# Altium schematic symbol library Schlib1.SchLib: 35 symbols
Pins are listed as number, name and electrical type; pins without a type are passive.

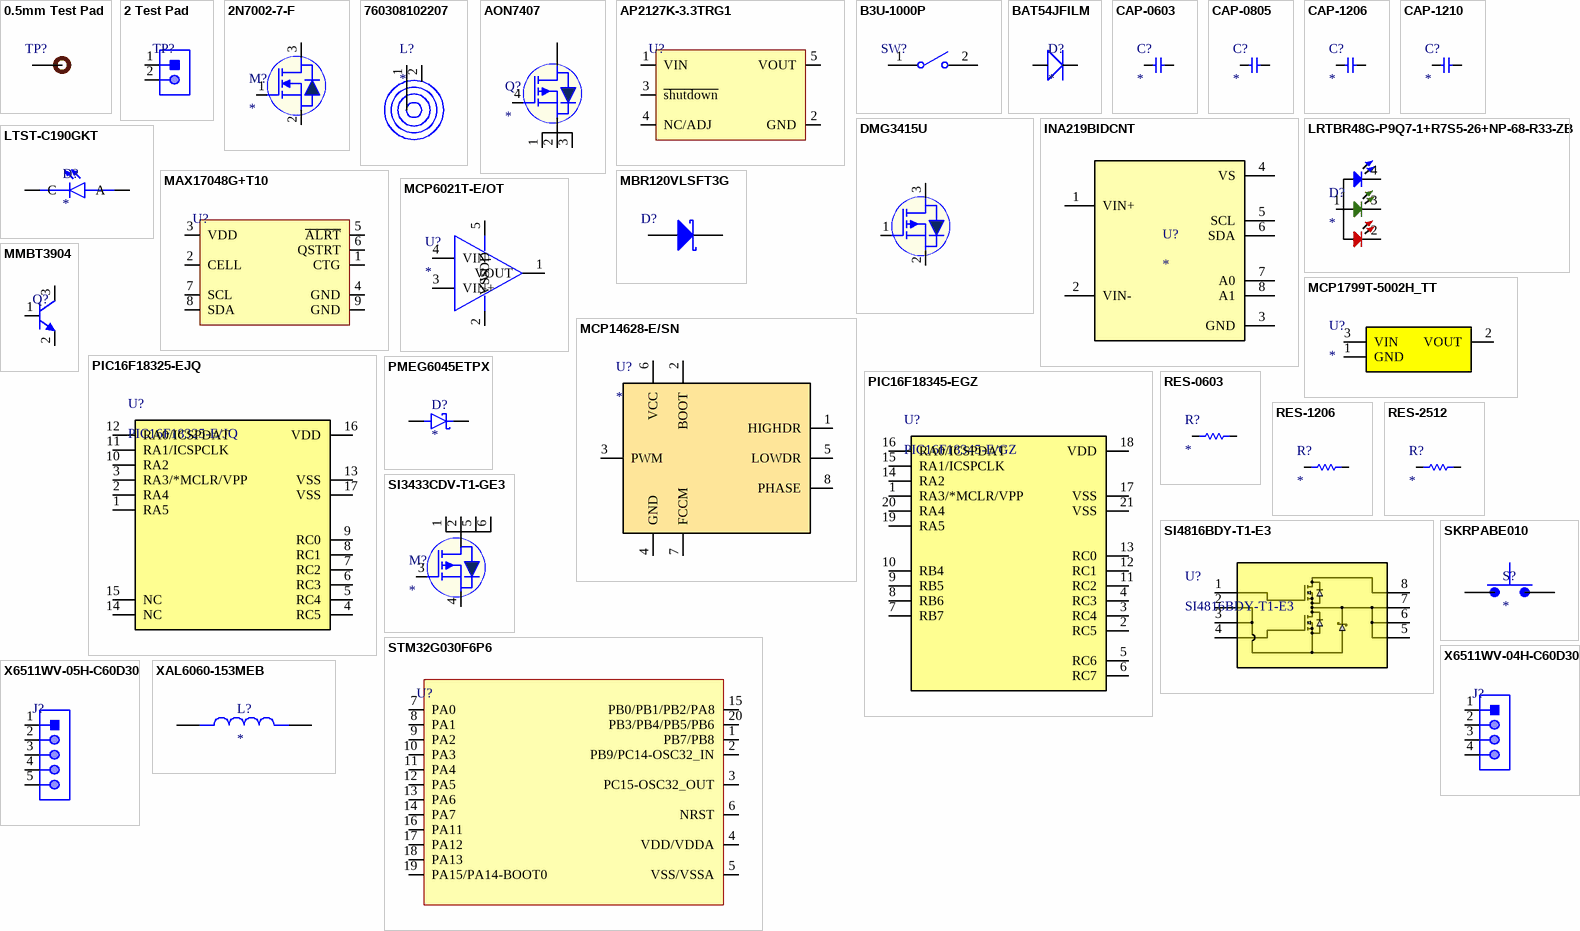
[diagram p0: symbols 0.5mm Test Pad to XAL6060-153MEB]

## 0.5mm Test Pad
designator TP?  (no BOM)
Test pad
footprint 0.5mm Test Pad
pins: 1

## 2 Test Pad
designator TP?  (no BOM)
Wire Connecting Pad; Manufacturer Part Number: 2 Test Pad; Item Type: Test Point
footprint 2 Test Pad
pins: 1, 2

## 2N7002-7-F
designator M?
N-Channel 60 V 115mA (Ta) 370mW (Ta) Surface Mount SOT-23-3; MP: 2N7002-7-F; MF: Diodes Inc.; Purchase-URL: https://pricing.snapeda.com/search/part/2N7002-7-F/?ref=eda; Package: SOT-23-3 Diodes Inc.; Price: None; Availability: In Stock; Value: *; Check_prices: https://www.snapeda.com/parts/2N7002-7-F/Diodes+Inc./view-part/?ref=eda; SnapEDA_Link: https://www.snapeda.com/parts/2N7002-7-F/Diodes+Inc./view-part/?ref=snap
footprint SOT103P240X110-3N
pins: 1 G, 2 S, 3 D

## 760308102207
designator L?
RX 1 COIL 1 LYR BIFILAR 8UH 5A; MF: WÃ¼rth Elektronik; MP: 760308102207; SnapEDA_Link: https://www.snapeda.com/parts/760308102207/W%25C3%25BCrth+Elektronik+Midcom/view-part/?ref=snap; Package: WÃ¼rth Elektronik; Value: *; Check_prices: https://www.snapeda.com/parts/760308102207/W%25C3%25BCrth+Elektronik+Midcom/view-part/?ref=eda
footprint WE-WPCC_RX_760308102207
pins: 1 11, 2 12

## AON7407
designator Q?
P-Channel 20 V 14.5A (Ta), 40A (Tc) 3.1W (Ta), 29W (Tc) Surface Mount 8-DFN-EP (3x3); MF: Alpha & Omega Semiconductor Inc.; MP: AON7407; SnapEDA_Link: https://www.snapeda.com/parts/AON7407/Alpha+%2526+Omega+Semiconductor+Inc./view-part/?ref=snap; Package: PowerVDFN-8 Alpha &amp; Omega Semiconductor Inc.; Value: *; Check_prices: https://www.snapeda.com/parts/AON7407/Alpha+%2526+Omega+Semiconductor+Inc./view-part/?ref=eda
footprint TRANS_AON7407
pins: 1 S, 2 S, 3 S, 4 G, 5_6_7_8 D

## AP2127K-3.3TRG1
designator U?
IC REG LINEAR 3.3V 300MA SOT23-5; Manufacturer: Diodes; Manufacturer Part Number: AP2127K-3.3TRG1; Supplier: Arrow Electronics; LCSC Part Number: C156285; RoHS: Yes; Item Type: IC; Stock: 45000; Pricing: 3000=0.0623, 6000=0.0623 (USD); ComponentLink1URL: https://datasheet.ciiva.com/30016/ap2127-30016760.pdf?src-supplier=Avnet; ComponentLink1Description: https://datasheet.ciiva.com/30016/ap2127-30016760.pdf?src-supplier=Avnet; ComponentLink2URL: https://datasheet.ciiva.com/29569/ap2127-29569893.pdf?src-supplier=Digikey; ComponentLink2Description: https://datasheet.ciiva.com/29569/ap2127-29569893.pdf?src-supplier=Digikey
footprint SOT-23-5
pins: 1 VIN, 2 GND, 3 ~{shutdown}, 4 NC/ADJ, 5 VOUT

## B3U-1000P
designator SW?
SWITCH TACTILE SPST-NO 0.05A 12V; Manufacturer: Omron; Manufacturer Part Number: B3U-1000P; Mechanical Life: 200000Cycles; Operating Force: 1.5N; Throw Configuration: SPST; Current Rating: 50mA; Contact Resistance: 100mR; Illumination Type: Non-Illuminated,Illuminated; Switch Travel: 0.15mm; Switch Function: Off-Mom; Actuator Type: Standard; Actuator Length: 0.4mm; Ratings: Dust Proof,IP40; ComponentLink1URL: http://www.farnell.com/datasheets/60838.pdf?src-supplier=Farnell; ComponentLink1Description: http://www.farnell.com/datasheets/60838.pdf?src-supplier=Farnell; ComponentLink2URL: http://www.farnell.com/datasheets/60838.pdf?src-supplier=Element14; ComponentLink2Description: http://www.farnell.com/datasheets/60838.pdf?src-supplier=Element14; ComponentLink3URL: https://omronfs.omron.com/en_US/ecb/products/pdf/en-b3u.pdf?src-supplier=Digi-Key; ComponentLink3Description: https://omronfs.omron.com/en_US/ecb/products/pdf/en-b3u.pdf?src-supplier=Digi-Key; ComponentLink4URL: http://www.omron.com/ecb/products/pdf/en-b3u.pdf?src-supplier=Digi-Key; ComponentLink4Description: http://www.omron.com/ecb/products/pdf/en-b3u.pdf?src-supplier=Digi-Key; ComponentLink5URL: https://www.distrelec.biz/Web/Downloads/he/et/B3U_eng_datasheet.pdf?mime=application%2Fpdf&src-supplier=Distrelec; ComponentLink5Description: https://www.distrelec.biz/Web/Downloads/he/et/B3U_eng_datasheet.pdf?mime=application%2Fpdf&src-supplier=Distrelec; ComponentLink6URL: http://www.onlinecomponents.com/productFiles/mf-OM/en-b3u.pdf?src-supplier=Onlinecomponents.com; ComponentLink6Description: http://www.onlinecomponents.com/productFiles/mf-OM/en-b3u.pdf?src-supplier=Onlinecomponents.com; Supplier 1: Digi-Key; Stock 1: 116454; Pricing 1: 1=1, 10=0.961, 25=0.9064, 50=0.7976, 100=0.7251, 250=0.68888, 500=0.67074, 1000=0.52571 (USD); Mount: Surface Mount; Weight: 0.000776oz; Contact Material: Silver; Min Operating Temperature: -25°C; Max Operating Temperature: 70°C; Packaging: Tape and Reel; Voltage Rating (DC): 12V; Package Quantity: 1; Max Current Rating: 50mA; Termination: SMD/SMT; Orientation: Straight; Max Voltage Rating (DC): 12V; Electrical Life: 200000Cycles; Insulation Resistance: 100MR; Contact Current Rating: 50mA; Length: 4mm; Height: 1.2mm; Depth: 2.5mm; Width: 3mm; REACH SVHC: Unknown; Lead Free: Lead Free; ComponentLink7URL: https://www.verical.com/server-webapp/html/getDatasheet?partID=552554&src-supplier=Verical; ComponentLink7Description: https://www.verical.com/server-webapp/html/getDatasheet?partID=552554&src-supplier=Verical; ComponentLink8URL: http://www.farnell.com/datasheets/1685550.pdf?src-supplier=Element14; ComponentLink8Description: http://www.farnell.com/datasheets/1685550.pdf?src-supplier=Element14; ComponentLink9URL: http://www.farnell.com/datasheets/2610940.pdf?src-supplier=Farnell; ComponentLink9Description: http://www.farnell.com/datasheets/2610940.pdf?src-supplier=Farnell; ComponentLink10URL: https://www.alliedelec.com/m/d/4c8a9ef82804fc3c241a13c1e298fd73.pdf?src-supplier=Allied+Electronics; ComponentLink10Description: https://www.alliedelec.com/m/d/4c8a9ef82804fc3c241a13c1e298fd73.pdf?src-supplier=Allied+Electronics; Supplier Part Number 1: SW1020DKR-ND; LCSC Part Number: C231329; Item Type: Switch
footprint B3U-1000P (SWITCH TACTILE SPST-NO 0.05A 12V)
pins: 1, 2

## BAT54JFILM
designator D?
MF: STMicroelectronics; MP: BAT54JFILM; Package: SOD-323 STMicroelectronics; Price: None; Check_prices: https://www.snapeda.com/parts/BAT54JFILM/STMicroelectronics/view-part/?ref=eda; Value: *; SnapEDA_Link: https://www.snapeda.com/parts/BAT54JFILM/STMicroelectronics/view-part/?ref=snap; Availability: In Stock; Purchase-URL: https://pricing.snapeda.com/search/part/BAT54JFILM/?ref=eda
footprint SOD-323
pins: NEG, POS

## CAP-0603
designator C?
footprint Cap-0603
pins: 1, 2

## CAP-0805
designator C?
footprint Cap-0805 (SMD 0805)
pins: 1, 2

## CAP-1206
designator C?
footprint Cap-1206 (SMD 1206)
pins: 1, 2

## CAP-1210
designator C?
footprint Cap-1210 (SMD 1210)
pins: 1, 2

## DMG3415U
designator Q?
P-Channel MOSFETs ROHS; Manufacturer: TECH PUBLIC; Manufacturer Part Number: DMG3415U; Item Type: MOSFET; Package: SOT-23; LCSC Part Number: C7202986; ComponentLink1Description: LCSC; ComponentLink1URL: https://www.lcsc.com/product-detail/MOSFETs_TECH-PUBLIC-DMG3415U_C7202986.html
footprint SOT-23 (TRANS NPN 40V 0.6A SOT23)
pins: 1 G, 2 S, 3 D

## INA219BIDCNT
designator U?
26-V 12-bit I2C output digital power monitor; MF: Texas Instruments; MP: INA219BIDCNT; SnapEDA_Link: https://www.snapeda.com/parts/INA219BIDCNT/Texas+Instruments/view-part/?ref=snap; Package: SOT-23-8 Texas Instruments; Value: *; Check_prices: https://www.snapeda.com/parts/INA219BIDCNT/Texas+Instruments/view-part/?ref=eda
footprint SOT65P280X145-8N
pins: 1 VIN+, 2 VIN-, 3 GND, 4 VS, 5 SCL, 6 SDA, 7 A0, 8 A1

## LRTBR48G-P9Q7-1+R7S5-26+NP-68-R33-ZB
designator D?
footprint LRTBR48G-P9Q7-1+R7S5-26+NP-68-R33-ZB
pins: 1 +, 2 -RED, 3 -GREEN, 4 -BLUE

## LTST-C190GKT
designator D?
MF: {'manufacturer': u'Lite-On Inc.'}; MP: LTST-C190GKT; Package: None; Price: None; Value: *; Availability: Unavailable
footprint LEDM1608X80
pins: A, C

## MAX17048G+T10
designator U?
IC BATT MON LI-ION 1CELL 8TDFN; Manufacturer: Maxim; Manufacturer Part Number: MAX17048G+T10; Output Voltage: 400mV; Operating Supply Current: 23uA; Operating Supply Voltage: 4.5V; Supplier 1: Mouser; RoHS: Yes; Category: Battery Management; Stock 1: 41293; Pricing 1: 1=3.34000, 10=3.00000, 50=2.84000, 100=2.46000, 1000=1.89000, 10000=1.83000 (USD); Mount: Surface Mount; Number of Pins: 8; Contact Plating: Tin,Matte; Min Operating Temperature: -20°C; Max Operating Temperature: 85°C; Packaging: Tape and Reel; Package Quantity: 10000; Series: ModelGauge™; Radiation Hardening: No; RoHS Compliant: Yes; ComponentLink1URL: https://datasheet.ciiva.com/14083/max17048-max17049-14083973.pdf?src-supplier=Digi-Key; ComponentLink1Description: https://datasheet.ciiva.com/14083/max17048-max17049-14083973.pdf?src-supplier=Digi-Key; Supplier Part Number 1: 700-MAX17048G+T10; LCSC Part Number: C2682616; Item Type: IC
footprint 8-TDFN-EP (2x2)
pins: 1 CTG, 2 CELL, 3 VDD, 4 GND, 5 ~{ALRT}, 6 QSTRT, 7 SCL, 8 SDA, 9 GND

## MBR120VLSFT3G
designator D?
DIODE SCHOTTKY 20V 1A SOD123FL; Manufacturer: ON Semiconductor; Manufacturer Part Number: MBR120VLSFT3G; Max Surge Current: 45A; Forward Voltage: 340mV; Peak Reverse Current: 600uA; Element Configuration: Single; Polarity: Standard; Supplier 1: Digi-Key; Stock 1: 130499; Pricing 1: 1=0.42, 10=0.338, 100=0.2298, 500=0.17234, 1000=0.12926 (USD); Number of Pins: 2; Min Operating Temperature: -65°C; Max Operating Temperature: 125°C; Package Quantity: 10000; Forward Current: 1A; Packaging: Tape and Reel; Max Reverse Leakage Current: 600uA; Average Rectified Current: 1A; Peak Non-Repetitive Surge Current: 45A; Max Repetitive Reverse Voltage (Vrrm): 20V; Max Forward Surge Current (Ifsm): 45A; Voltage Rating (DC): 20V; Current Rating: 1A; Output Current: 1A; Max Reverse Voltage (DC): 20V; Radiation Hardening: No; REACH SVHC: No SVHC; Lead Free: Lead Free; Halogen Free: Halogen Free; ComponentLink1URL: http://www.mouser.com/ds/2/308/MBR120VLSFT1-D-107081.pdf?src-supplier=Mouser; ComponentLink1Description: http://www.mouser.com/ds/2/308/MBR120VLSFT1-D-107081.pdf?src-supplier=Mouser; ComponentLink2URL: http://www.onsemi.com/pub/Collateral/MBR120VLSFT1-D.PDF?src-supplier=Digi-Key; ComponentLink2Description: http://www.onsemi.com/pub/Collateral/MBR120VLSFT1-D.PDF?src-supplier=Digi-Key; ComponentLink3URL: http://www.onsemi.cn/pub_link/Collateral/MBR120VLSFT1-D.PDF?src-supplier=Avnet; ComponentLink3Description: http://www.onsemi.cn/pub_link/Collateral/MBR120VLSFT1-D.PDF?src-supplier=Avnet; Supplier Part Number 1: MBR120VLSFT3GOSCT-ND; LCSC Part Number: C295749
footprint SOD-123
pins: 1 A, 2 K

## MCP1799T-5002H_TT
designator U?
Linear Voltage Regulator IC Positive Fixed 1 Output  80mA SOT-23-3; MF: Microchip Technology; MP: MCP1799T-5002H/TT; SnapEDA_Link: https://www.snapeda.com/parts/MCP1799T-5002H/TT/Microchip/view-part/?ref=snap; Package: TO-236-3 Microchip Technology; Value: *; Check_prices: https://www.snapeda.com/parts/MCP1799T-5002H/TT/Microchip/view-part/?ref=eda
footprint SOT95P237X112-3N
pins: 1 GND, 2 VOUT, 3 VIN

## MCP6021T-E/OT
designator U?
IC OPAMP GP 1 CIRCUIT SOT23-5; MP: MCP6021T-E/OT; MF: Microchip Technology; DigiKey-Purchase-URL: https://snapeda.com/shop?store=DigiKey&id=4816934; Availability: Unavailable; Arrow_Electronics-Purchase-URL: https://snapeda.com/shop?store=Arrow+Electronics&id=4816934; Package: None; Mouser-Purchase-URL: https://snapeda.com/shop?store=Mouser&id=4816934; SnapEDA_Link: https://www.snapeda.com/parts/MCP6021T-E/OT/Atmel/view-part/4816934/?ref=snap; Value: *; Price: None
footprint SOT95P270X145-5N
pins: 1 VOUT, 2 VSS, 3 VIN+, 4 VIN-, 5 VDD

## MCP14628-E/SN
designator U?
Microchip MCP14628-E/SN, Dual MOSFET Power Driver 2A, 4.5 to 5.5 V, 8-Pin SOIC | Microchip Technology Inc. MCP14628-E/SN; SnapEDA_Link: https://www.snapeda.com/parts/MCP14628-E/SN/Microchip+Technology/view-part/?ref=snap; Package: SOIC-8 Microchip; Value: *; MF: Microchip; MP: MCP14628-E/SN; Check_prices: https://www.snapeda.com/parts/MCP14628-E/SN/Microchip+Technology/view-part/?ref=eda
footprint SOIC127P600X175-8N
pins: 1 HIGHDR, 2 BOOT, 3 PWM, 4 GND, 5 LOWDR, 6 VCC, 7 FCCM, 8 PHASE

## MMBT3904
designator Q?
40V 200mW 100 200mA NPN SOT-23 Bipolar (BJT) ROHS; Manufacturer: ElecSuper; Manufacturer Part Number: MMBT3904; Item Type: (BJT); Package: SOT-23; LCSC Part Number: C5249683; ComponentLink1Description: LCSC; ComponentLink1URL: https://www.lcsc.com/product-detail/Bipolar-BJT_ElecSuper-MMBT3904_C5249683.html
footprint SOT-23 (TRANS NPN 40V 0.6A SOT23)
pins: 1 B, 2 E, 3 C

## PIC16F18325-EJQ
designator U?, comment PIC16F18325-E/JQ
No Description Available; Manufacturer_Name: Microchip; Copyright: Copyright (C) 2025 Ultra Librarian. All rights reserved.; Manufacturer_Part_Number: PIC16F18325-E/JQ; RefDes: RefDes; Type: Type
footprint UQFN16_JQ_MCH
pins: 1 RA5, 2 RA4, 3 RA3/*MCLR/VPP, 4 RC5, 5 RC4, 6 RC3, 7 RC2, 8 RC1, 9 RC0, 10 RA2, 11 RA1/ICSPCLK, 12 RA0/ICSPDAT, 13 VSS, 14 NC, 15 NC, 16 VDD, 17 VSS

## PIC16F18345-EGZ
designator U?, comment PIC16F18345-E/GZ
No Description Available; Manufacturer_Name: Microchip; Type: Embedded; Copyright: Copyright (C) 2025 Ultra Librarian. All rights reserved.; Manufacturer_Part_Number: PIC16F18345-E/GZ; RefDes: RefDes
footprint UQFN20_GZ_MCH
pins: 1 RA3/*MCLR/VPP, 2 RC5, 3 RC4, 4 RC3, 5 RC6, 6 RC7, 7 RB7, 8 RB6, 9 RB5, 10 RB4, 11 RC2, 12 RC1, 13 RC0, 14 RA2, 15 RA1/ICSPCLK, 16 RA0/ICSPDAT, 17 VSS, 18 VDD, 19 RA5, 20 RA4, 21 VSS

## PMEG6045ETPX
designator D?
Rectifier Diode Schottky 4.5A 20ns Automotive 2-Pin SOD-128 T/R; MF: Nexperia; MP: PMEG6045ETPX; SnapEDA_Link: https://www.snapeda.com/parts/PMEG6045ETPX/Nexperia/view-part/?ref=snap; Package: CFP5-2 Nexperia USA Inc.; Value: *; Check_prices: https://www.snapeda.com/parts/PMEG6045ETPX/Nexperia/view-part/?ref=eda
footprint DIO_PMEG6045ETPX
pins: A, K

## RES-0603
designator R?
footprint Res-0603
pins: 1, 2

## RES-1206
designator R?
footprint Res-1206
pins: 1, 2

## RES-2512
designator R?
footprint RES-2512
pins: 1, 2

## SI3433CDV-T1-GE3
designator M?
footprint 6-TSOP_
pins: 1 D, 2 D, 3 G, 4 S, 5 D, 6 D

## SI4816BDY-T1-E3
designator U?
DUAL N-CH 30-V (D-S) MOSFET W/SCHOTTKY; Manufacturer_Name: Vishay; Copyright: Copyright (C) 2025 Ultra Librarian. All rights reserved.; Manufacturer_Part_Number: SI4816BDY-T1-E3; Datasheet: https://www.vishay.com/doc?73026; RefDes: RefDes; Type: Type
footprint SOIC8_NARROW_VIS
pins: 1, 2, 3, 4, 5, 6, 7, 8

## SKRPABE010
designator S?
Switch Tactile N.O. SPST Button J-Bend 0.05A 16VDC 1.57N SMD Automotive T/R; MF: ALPS; MP: SKRPABE010; SnapEDA_Link: https://www.snapeda.com/parts/SKRPABE010/ALPS/view-part/?ref=snap; Package: None; Value: *; Check_prices: https://www.snapeda.com/parts/SKRPABE010/ALPS/view-part/?ref=eda
footprint SW_SKRPABE010
pins: 1, 2 1, 3 2, 4 2

## STM32G030F6P6
designator U?
IC MCU 32BIT 32KB FLASH 20TSSOP; Manufacturer: STMicroelectronics; Manufacturer Part Number: STM32G030F6P6; Supplier: Future Electronics; LCSC Part Number: C724040; RoHS: Yes; Item Type: IC; Stock: 15; Pricing: 20=0.745, 296=0.71, 1110=0.68, 1850=0.67, 3700=0.635 (USD); ComponentLink1URL: http://www.farnell.com/datasheets/2882477.pdf?src-supplier=Farnell; ComponentLink1Description: http://www.farnell.com/datasheets/2882477.pdf?src-supplier=Farnell; ComponentLink2URL: https://www.st.com/resource/en/datasheet/stm32g030c6.pdf?src-supplier=Digikey; ComponentLink2Description: https://www.st.com/resource/en/datasheet/stm32g030c6.pdf?src-supplier=Digikey; ComponentLink3URL: https://datasheet.octopart.com/STM32G030F6P6-STMicroelectronics-datasheet-137692524.pdf?src-supplier=TME; ComponentLink3Description: https://datasheet.octopart.com/STM32G030F6P6-STMicroelectronics-datasheet-137692524.pdf?src-supplier=TME
footprint TSSOP-20
pins: 1 PB7/PB8, 2 PB9/PC14-OSC32_IN, 3 PC15-OSC32_OUT, 4 VDD/VDDA, 5 VSS/VSSA, 6 NRST, 7 PA0, 8 PA1, 9 PA2, 10 PA3, 11 PA4, 12 PA5, 13 PA6, 14 PA7, 15 PB0/PB1/PB2/PA8, 16 PA11, 17 PA12, 18 PA13, 19 PA15/PA14-BOOT0, 20 PB3/PB4/PB5/PB6

## X6511WV-04H-C60D30
designator J?
Gold 250V 3A Straight Square Pins 2.5mm 4P 260℃ 6mm -40℃~+105℃ 3mm 2.54mm Plugin Black Brass 1x4P Plugin,P=2.54mm Pin Headers ROHS; Manufacturer: XKB; Manufacturer Part Number: X6511WV-04H-C60D30; Item Type: Male Header; ComponentLink1Description: LCSC; ComponentLink1URL: https://www.lcsc.com/product-detail/Pin-Headers_XKB-Connectivity-X6511WV-04H-C60D30_C706876.html; Package: Plugin,P=2.54mm; LCSC Part Number: C706876
footprint HDR1X4_ (Connector; Header; 4 Position)
pins: 1, 2, 3, 4

## X6511WV-05H-C60D30
designator J?
Gold 250V 3A Straight Square Pins 2.5mm 5P 260℃ 6mm -40℃~+105℃ 3mm 2.54mm Plugin Black Brass 1x5P Plugin,P=2.54mm Pin Headers ROHS; Manufacturer: XKB; Manufacturer Part Number: X6511WV-05H-C60D30; Item Type: Male Header; ComponentLink1Description: LCSC; ComponentLink1URL: https://www.lcsc.com/product-detail/Pin-Headers_XKB-Connectivity-X6511WV-05H-C60D30_C706877.html; Package: Plugin,P=2.54mm; LCSC Part Number: C706877
footprint HDR1X5_ (Connector; Header; 5 Position)
pins: 1, 2, 3, 4, 5

## XAL6060-153MEB
designator L?
Power inductor, shielded, 20% tol, SMT, RoHS, halogen f; MF: Coilcraft; MP: XAL6060-153MEB; SnapEDA_Link: https://www.snapeda.com/parts/XAL6060-153MEB/Coilcraft/view-part/?ref=snap; Package: None; Value: *; Check_prices: https://www.snapeda.com/parts/XAL6060-153MEB/Coilcraft/view-part/?ref=eda
footprint IND_XAL6060-153MEB
pins: 1, 2